# Altium schematic symbol library SCH - CONNECTORS - SongCheng JSZ3-01CA.Schlib: 1 symbol
Pins are listed as number, name and electrical type; pins without a type are passive.

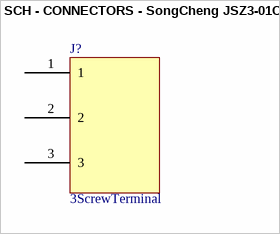
[diagram p0: symbol SCH - CONNECTORS - SongCheng JSZ3-01CA]

## SCH - CONNECTORS - SongCheng JSZ3-01CA
designator J?, comment 3ScrewTerminal
footprint JSZ3-01CA (3-pin screw terminal)
pins: 1, 2, 3